# Altium schematic symbol library Passives.SchLib: 10 symbols
Pins are listed as number, name and electrical type; pins without a type are passive.

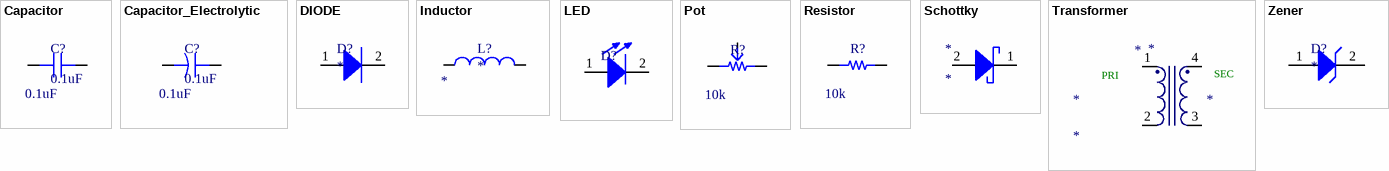
[diagram p0: symbols Capacitor to Zener]

## Capacitor
designator C?, comment 0.1uF
SMT Capacitor; Value: 0.1uF
pins: 1, 2

## Capacitor_Electrolytic
designator C?, comment 0.1uF
SMT Capacitor; Value: 0.1uF
pins: 1, 2

## DIODE
designator D?
mfrpartno: *
pins: 1 A, 2 K

## Inductor
designator L?
MfrPartNo: *
pins: 1, 2

## LED
designator D?
pins: 1 A, 2 K

## Pot
designator R?  value 10k
pins: 1, 2, 3

## Resistor
designator R?  value 10k
pins: 1, 2

## Schottky
designator *
pins: 1 K, 2 A

## Transformer
designator *
MfrPartNo: *; Value: *; Voltage_Secondary: *; Voltage_Primary: *
pins: 1, 2, 3, 4
text: PRI; SEC

## Zener
designator D?
MfrPartNo: *
pins: 1 A, 2 K